# Altium footprint library 5221.6-1.PcbLib: 1 footprints
Each footprint in its own frame and in the unit in brackets; x right, y up, seen from the top. Pads: shape width x height; smd on the part's side, far side on the other; paste and mask are expansions set on the pad; w line width, h text height; cw(c..) or ccw(c..) is an arc to the next point about the centre after c.
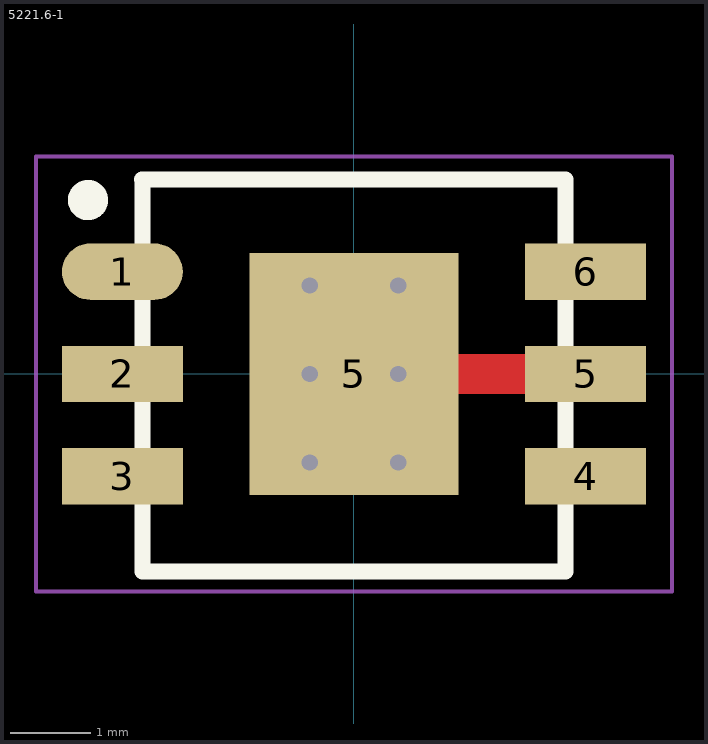
[diagram p0: the footprint, top view; thin cyan lines are the x and y axes]

## 5221.6-1 [mm] "5221.6-1, 6-Leads, Body 4,40x5,25mm, Pitch 1,27mm, Thermal Pad 3,00x2,60mm, IPC Medium Density"
height 1.7
pads (7):
  oval 1.5x0.7 smd: 1(-2.875,1.27)
  rect 1.5x0.7 smd: 2(-2.875,0) 3(-2.875,-1.27) 4(2.875,-1.27) 5(2.875,0) 6(2.875,1.27)
  rect 2.6x3 smd: 5(0,0)
via -0.55,1.1 diameter 0.5 hole 0.2
via 0.55,1.1 diameter 0.5 hole 0.2
via -0.55,0 diameter 0.5 hole 0.2
via 0.55,0 diameter 0.5 hole 0.2
via -0.55,-1.1 diameter 0.5 hole 0.2
via 0.55,-1.1 diameter 0.5 hole 0.2
Top Layer:
  lines w0.5: 0.55,0 2.875,0
Top Overlay:
  circle w0.25: c-3.302,2.159 r0.125
  lines w0.2: -2.631,2.413 2.625,2.413 2.625,-2.45 -2.625,-2.45 -2.625,2.413
Mechanical 15:
  lines w0.05: -3.95,-2.7 -3.95,2.7 3.95,2.7 3.95,-2.7 -3.95,-2.7
  lines w0.1: -0.5,0 0.5,0 ; 0,-0.5 0,0.5
3D body "5221.6-1.step": height 1.7, standoff 0, extent -3.15,-2.45 3.15,2.45